# EAGLE library part CC1310F128RHBT (library Hexabitz)
Description : SimpleLink Sub-1 GHz Ultra-Low Power Wireless Microcontroller 32-VQFN -40 to 85 Parameter : Core Architecture : ARM Current - Receiving : 5.5 mA Current - Transmitting : 22.6 mA Data Bus Width : 32 b Data Rate : 50 kbps Density : 131072 B Frequency : 930 MHz Interface : I2C , SPI , UART , I2S Max Frequency : 1 GHz Max Operating Temperature : 85 °C Max Supply Voltage : 3.8 V Memory Size : 20 kB Memory Type : FLASH Min Operating Temperature : -40 °C Min Supply Voltage : 1.8 V Number of GPIO : 15 Number of Programmable I/O : 15 Number of Timers/Counters : 4 RAM Size : 20 kb Sensitivity : -124 dBm Watchdog Timer : Yes
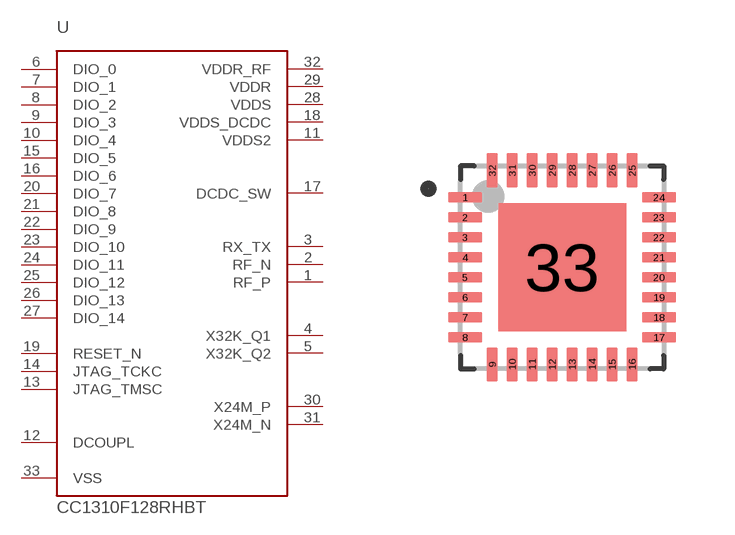
[diagram p2: symbol with the pads of CC1310F128RHBT; footprint CC1310F128RHBT]

Designator prefix U

## CC1310F128RHBT (MFN: Texas Instruments; MPN: CC1310F128RHBT; OCTOPART_URL: http://octopart.com/cc1310f128rhbt-texas+instruments-65758956)  [CC1310F128RHBT]
1  RF_P
2  RF_N
3  RX_TX
4  X32K_Q1
5  X32K_Q2
6  DIO_0
7  DIO_1
8  DIO_2
9  DIO_3
10  DIO_4
11  VDDS2
12  DCOUPL
13  JTAG_TMSC
14  JTAG_TCKC
15  DIO_5
16  DIO_6
17  DCDC_SW
18  VDDS_DCDC
19  RESET_N
20  DIO_7
21  DIO_8
22  DIO_9
23  DIO_10
24  DIO_11
25  DIO_12
26  DIO_13
27  DIO_14
28  VDDS
29  VDDR
30  X24M_P
31  X24M_N
32  VDDR_RF
33  VSS

## Footprint CC1310F128RHBT (pad centres in mm)
smd 0.86 x 0.27: 1 -2.425,1.75; 2 -2.425,1.25; 3 -2.425,0.75; 4 -2.425,0.25; 5 -2.425,-0.25; 6 -2.425,-0.75; 7 -2.425,-1.25; 8 -2.425,-1.75; 17 2.425,-1.75; 18 2.425,-1.25; 19 2.425,-0.75; 20 2.425,-0.25; 21 2.425,0.25; 22 2.425,0.75; 23 2.425,1.25; 24 2.425,1.75
smd 0.27 x 0.86: 9 -1.75,-2.425; 10 -1.25,-2.425; 11 -0.75,-2.425; 12 -0.25,-2.425; 13 0.25,-2.425; 14 0.75,-2.425; 15 1.25,-2.425; 16 1.75,-2.425; 25 1.75,2.425; 26 1.25,2.425; 27 0.75,2.425; 28 0.25,2.425; 29 -0.25,2.425; 30 -0.75,2.425; 31 -1.25,2.425; 32 -1.75,2.425
smd 3.2 x 3.2: 33 0,0